# Altium integrated library Resistors_CPF-0805.IntLib: 984 symbols (part 4 of 6)
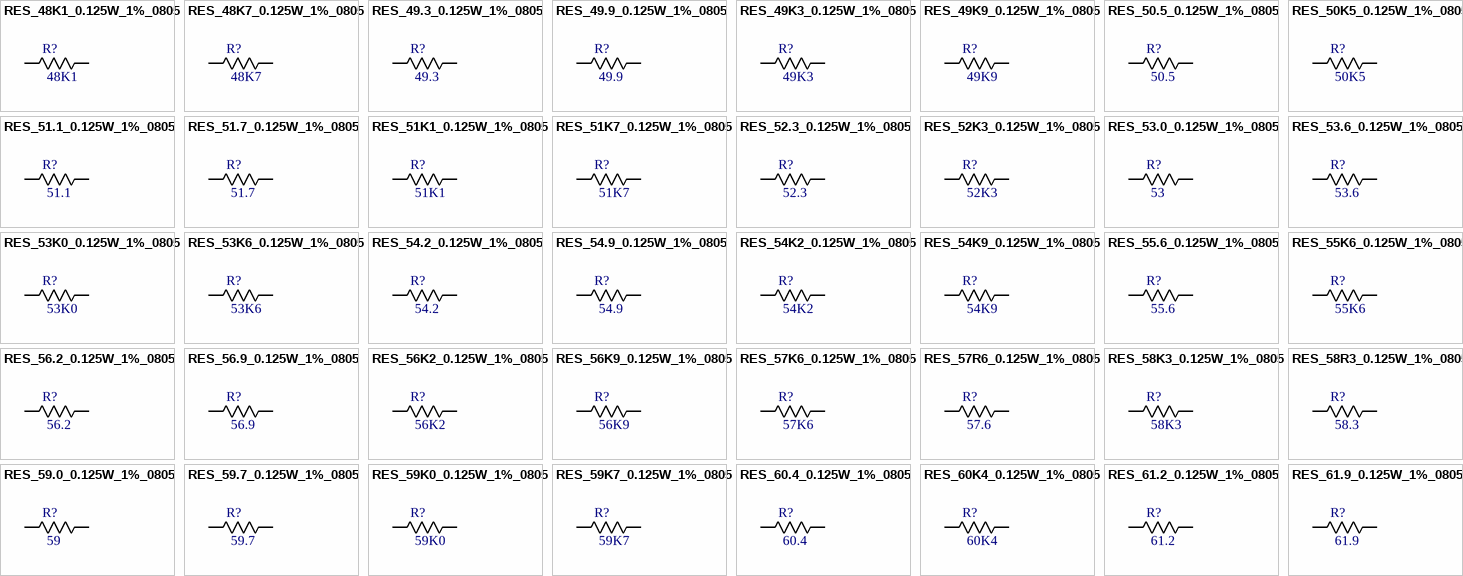
[diagram p27: symbols RES_48K1_0.125W_1%_0805 to RES_61.9_0.125W_1%_0805]

## RES_60K4_0.125W_1%_0805
designator R?, comment 60K4
Resistenza SMD TE Connectivity Film sottile; Voltage[V]: 100; Tollerance[%]: 0.1; Serie: CPF; Vendor: TE Connectivity; Type: Resistors; Package: 0805; Power[W]: 0.1; Value[OHM ]: 60K4
footprint RES_0816_SUS(My_MAXI)
pins: 1, 2

## RES_61.2_0.125W_1%_0805
designator R?, comment 61.2
Resistenza SMD TE Connectivity Film sottile; Voltage[V]: 100; Tollerance[%]: 0.1; Serie: CPF; Vendor: TE Connectivity; Type: Resistors; Package: 0805; Power[W]: 0.1; Value[OHM ]: 61.2
footprint RES_0816_SUS(My_MAXI)
pins: 1, 2

## RES_61.9_0.125W_1%_0805
designator R?, comment 61.9
Resistenza SMD TE Connectivity Film sottile; Voltage[V]: 100; Tollerance[%]: 0.1; Serie: CPF; Vendor: TE Connectivity; Type: Resistors; Package: 0805; Power[W]: 0.1; Value[OHM ]: 61.9
footprint RES_0816_SUS(My_MAXI)
pins: 1, 2

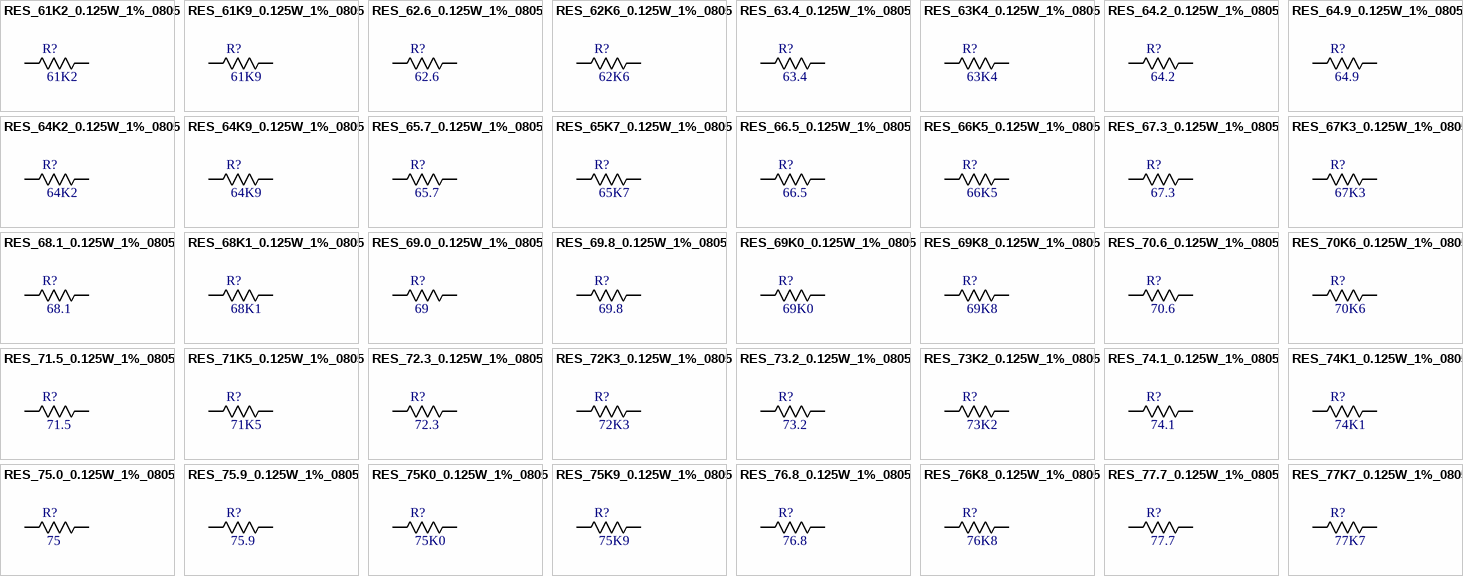
[diagram p13: symbols RES_61K2_0.125W_1%_0805 to RES_77K7_0.125W_1%_0805]

## RES_61K2_0.125W_1%_0805
designator R?, comment 61K2
Resistenza SMD TE Connectivity Film sottile; Voltage[V]: 100; Tollerance[%]: 0.1; Serie: CPF; Vendor: TE Connectivity; Type: Resistors; Package: 0805; Power[W]: 0.1; Value[OHM ]: 61K2
footprint RES_0816_SUS(My_MAXI)
pins: 1, 2

## RES_61K9_0.125W_1%_0805
designator R?, comment 61K9
Resistenza SMD TE Connectivity Film sottile; Voltage[V]: 100; Tollerance[%]: 0.1; Serie: CPF; Vendor: TE Connectivity; Type: Resistors; Package: 0805; Power[W]: 0.1; Value[OHM ]: 61K9
footprint RES_0816_SUS(My_MAXI)
pins: 1, 2

## RES_62.6_0.125W_1%_0805
designator R?, comment 62.6
Resistenza SMD TE Connectivity Film sottile; Voltage[V]: 100; Tollerance[%]: 0.1; Serie: CPF; Vendor: TE Connectivity; Type: Resistors; Package: 0805; Power[W]: 0.1; Value[OHM ]: 62.6
footprint RES_0816_SUS(My_MAXI)
pins: 1, 2

## RES_62K6_0.125W_1%_0805
designator R?, comment 62K6
Resistenza SMD TE Connectivity Film sottile; Voltage[V]: 100; Tollerance[%]: 0.1; Serie: CPF; Vendor: TE Connectivity; Type: Resistors; Package: 0805; Power[W]: 0.1; Value[OHM ]: 62K6
footprint RES_0816_SUS(My_MAXI)
pins: 1, 2

## RES_63.4_0.125W_1%_0805
designator R?, comment 63.4
Resistenza SMD TE Connectivity Film sottile; Voltage[V]: 100; Tollerance[%]: 0.1; Serie: CPF; Vendor: TE Connectivity; Type: Resistors; Package: 0805; Power[W]: 0.1; Value[OHM ]: 63.4
footprint RES_0816_SUS(My_MAXI)
pins: 1, 2

## RES_63K4_0.125W_1%_0805
designator R?, comment 63K4
Resistenza SMD TE Connectivity Film sottile; Voltage[V]: 100; Tollerance[%]: 0.1; Serie: CPF; Vendor: TE Connectivity; Type: Resistors; Package: 0805; Power[W]: 0.1; Value[OHM ]: 63K4
footprint RES_0816_SUS(My_MAXI)
pins: 1, 2

## RES_64.2_0.125W_1%_0805
designator R?, comment 64.2
Resistenza SMD TE Connectivity Film sottile; Voltage[V]: 100; Tollerance[%]: 0.1; Serie: CPF; Vendor: TE Connectivity; Type: Resistors; Package: 0805; Power[W]: 0.1; Value[OHM ]: 64.2
footprint RES_0816_SUS(My_MAXI)
pins: 1, 2

## RES_64.9_0.125W_1%_0805
designator R?, comment 64.9
Resistenza SMD TE Connectivity Film sottile; Voltage[V]: 100; Tollerance[%]: 0.1; Serie: CPF; Vendor: TE Connectivity; Type: Resistors; Package: 0805; Power[W]: 0.1; Value[OHM ]: 64.9
footprint RES_0816_SUS(My_MAXI)
pins: 1, 2

## RES_64K2_0.125W_1%_0805
designator R?, comment 64K2
Resistenza SMD TE Connectivity Film sottile; Voltage[V]: 100; Tollerance[%]: 0.1; Serie: CPF; Vendor: TE Connectivity; Type: Resistors; Package: 0805; Power[W]: 0.1; Value[OHM ]: 64K2
footprint RES_0816_SUS(My_MAXI)
pins: 1, 2

## RES_64K9_0.125W_1%_0805
designator R?, comment 64K9
Resistenza SMD TE Connectivity Film sottile; Voltage[V]: 100; Tollerance[%]: 0.1; Serie: CPF; Vendor: TE Connectivity; Type: Resistors; Package: 0805; Power[W]: 0.1; Value[OHM ]: 64K9
footprint RES_0816_SUS(My_MAXI)
pins: 1, 2

## RES_65.7_0.125W_1%_0805
designator R?, comment 65.7
Resistenza SMD TE Connectivity Film sottile; Voltage[V]: 100; Tollerance[%]: 0.1; Serie: CPF; Vendor: TE Connectivity; Type: Resistors; Package: 0805; Power[W]: 0.1; Value[OHM ]: 65.7
footprint RES_0816_SUS(My_MAXI)
pins: 1, 2

## RES_65K7_0.125W_1%_0805
designator R?, comment 65K7
Resistenza SMD TE Connectivity Film sottile; Voltage[V]: 100; Tollerance[%]: 0.1; Serie: CPF; Vendor: TE Connectivity; Type: Resistors; Package: 0805; Power[W]: 0.1; Value[OHM ]: 65K7
footprint RES_0816_SUS(My_MAXI)
pins: 1, 2

## RES_66.5_0.125W_1%_0805
designator R?, comment 66.5
Resistenza SMD TE Connectivity Film sottile; Voltage[V]: 100; Tollerance[%]: 0.1; Serie: CPF; Vendor: TE Connectivity; Type: Resistors; Package: 0805; Power[W]: 0.1; Value[OHM ]: 66.5
footprint RES_0816_SUS(My_MAXI)
pins: 1, 2

## RES_66K5_0.125W_1%_0805
designator R?, comment 66K5
Resistenza SMD TE Connectivity Film sottile; Voltage[V]: 100; Tollerance[%]: 0.1; Serie: CPF; Vendor: TE Connectivity; Type: Resistors; Package: 0805; Power[W]: 0.1; Value[OHM ]: 66K5
footprint RES_0816_SUS(My_MAXI)
pins: 1, 2

## RES_67.3_0.125W_1%_0805
designator R?, comment 67.3
Resistenza SMD TE Connectivity Film sottile; Voltage[V]: 100; Tollerance[%]: 0.1; Serie: CPF; Vendor: TE Connectivity; Type: Resistors; Package: 0805; Power[W]: 0.1; Value[OHM ]: 67.3
footprint RES_0816_SUS(My_MAXI)
pins: 1, 2

## RES_67K3_0.125W_1%_0805
designator R?, comment 67K3
Resistenza SMD TE Connectivity Film sottile; Voltage[V]: 100; Tollerance[%]: 0.1; Serie: CPF; Vendor: TE Connectivity; Type: Resistors; Package: 0805; Power[W]: 0.1; Value[OHM ]: 67K3
footprint RES_0816_SUS(My_MAXI)
pins: 1, 2

## RES_68.1_0.125W_1%_0805
designator R?, comment 68.1
Resistenza SMD TE Connectivity Film sottile; Voltage[V]: 100; Tollerance[%]: 0.1; Serie: CPF; Vendor: TE Connectivity; Type: Resistors; Package: 0805; Power[W]: 0.1; Value[OHM ]: 68.1
footprint RES_0816_SUS(My_MAXI)
pins: 1, 2

## RES_68K1_0.125W_1%_0805
designator R?, comment 68K1
Resistenza SMD TE Connectivity Film sottile; Voltage[V]: 100; Tollerance[%]: 0.1; Serie: CPF; Vendor: TE Connectivity; Type: Resistors; Package: 0805; Power[W]: 0.1; Value[OHM ]: 68K1
footprint RES_0816_SUS(My_MAXI)
pins: 1, 2

## RES_69.0_0.125W_1%_0805
designator R?, comment 69
Resistenza SMD TE Connectivity Film sottile; Voltage[V]: 100; Tollerance[%]: 0.1; Serie: CPF; Vendor: TE Connectivity; Type: Resistors; Package: 0805; Power[W]: 0.1; Value[OHM ]: 69
footprint RES_0816_SUS(My_MAXI)
pins: 1, 2

## RES_69.8_0.125W_1%_0805
designator R?, comment 69.8
Resistenza SMD TE Connectivity Film sottile; Voltage[V]: 100; Tollerance[%]: 0.1; Serie: CPF; Vendor: TE Connectivity; Type: Resistors; Package: 0805; Power[W]: 0.1; Value[OHM ]: 69.8
footprint RES_0816_SUS(My_MAXI)
pins: 1, 2

## RES_69K0_0.125W_1%_0805
designator R?, comment 69K0
Resistenza SMD TE Connectivity Film sottile; Voltage[V]: 100; Tollerance[%]: 0.1; Serie: CPF; Vendor: TE Connectivity; Type: Resistors; Package: 0805; Power[W]: 0.1; Value[OHM ]: 69K0
footprint RES_0816_SUS(My_MAXI)
pins: 1, 2

## RES_69K8_0.125W_1%_0805
designator R?, comment 69K8
Resistenza SMD TE Connectivity Film sottile; Voltage[V]: 100; Tollerance[%]: 0.1; Serie: CPF; Value[OHM ]: 69K0; Vendor: TE Connectivity; Type: Resistors; Package: 0805; Power[W]: 0.1
footprint RES_0816_SUS(My_MAXI)
pins: 1, 2

## RES_70.6_0.125W_1%_0805
designator R?, comment 70.6
Resistenza SMD TE Connectivity Film sottile; Voltage[V]: 100; Tollerance[%]: 0.1; Serie: CPF; Vendor: TE Connectivity; Type: Resistors; Package: 0805; Power[W]: 0.1; Value[OHM ]: 70.6
footprint RES_0816_SUS(My_MAXI)
pins: 1, 2

## RES_70K6_0.125W_1%_0805
designator R?, comment 70K6
Resistenza SMD TE Connectivity Film sottile; Voltage[V]: 100; Tollerance[%]: 0.1; Serie: CPF; Vendor: TE Connectivity; Type: Resistors; Package: 0805; Power[W]: 0.1; Value[OHM ]: 70K6
footprint RES_0816_SUS(My_MAXI)
pins: 1, 2

## RES_71.5_0.125W_1%_0805
designator R?, comment 71.5
Resistenza SMD TE Connectivity Film sottile; Voltage[V]: 100; Tollerance[%]: 0.1; Serie: CPF; Vendor: TE Connectivity; Type: Resistors; Package: 0805; Power[W]: 0.1; Value[OHM ]: 71.5
footprint RES_0816_SUS(My_MAXI)
pins: 1, 2

## RES_71K5_0.125W_1%_0805
designator R?, comment 71K5
Resistenza SMD TE Connectivity Film sottile; Voltage[V]: 100; Tollerance[%]: 0.1; Serie: CPF; Vendor: TE Connectivity; Type: Resistors; Package: 0805; Power[W]: 0.1; Value[OHM ]: 71K5
footprint RES_0816_SUS(My_MAXI)
pins: 1, 2

## RES_72.3_0.125W_1%_0805
designator R?, comment 72.3
Resistenza SMD TE Connectivity Film sottile; Voltage[V]: 100; Tollerance[%]: 0.1; Serie: CPF; Vendor: TE Connectivity; Type: Resistors; Package: 0805; Power[W]: 0.1; Value[OHM ]: 72.3
footprint RES_0816_SUS(My_MAXI)
pins: 1, 2

## RES_72K3_0.125W_1%_0805
designator R?, comment 72K3
Resistenza SMD TE Connectivity Film sottile; Voltage[V]: 100; Tollerance[%]: 0.1; Serie: CPF; Vendor: TE Connectivity; Type: Resistors; Package: 0805; Power[W]: 0.1; Value[OHM ]: 72K3
footprint RES_0816_SUS(My_MAXI)
pins: 1, 2

## RES_73.2_0.125W_1%_0805
designator R?, comment 73.2
Resistenza SMD TE Connectivity Film sottile; Voltage[V]: 100; Tollerance[%]: 0.1; Serie: CPF; Vendor: TE Connectivity; Type: Resistors; Package: 0805; Power[W]: 0.1; Value[OHM ]: 73.2
footprint RES_0816_SUS(My_MAXI)
pins: 1, 2

## RES_73K2_0.125W_1%_0805
designator R?, comment 73K2
Resistenza SMD TE Connectivity Film sottile; Voltage[V]: 100; Tollerance[%]: 0.1; Serie: CPF; Vendor: TE Connectivity; Type: Resistors; Package: 0805; Power[W]: 0.1; Value[OHM ]: 73K2
footprint RES_0816_SUS(My_MAXI)
pins: 1, 2

## RES_74.1_0.125W_1%_0805
designator R?, comment 74.1
Resistenza SMD TE Connectivity Film sottile; Voltage[V]: 100; Tollerance[%]: 0.1; Serie: CPF; Vendor: TE Connectivity; Type: Resistors; Package: 0805; Power[W]: 0.1; Value[OHM ]: 74.1
footprint RES_0816_SUS(My_MAXI)
pins: 1, 2

## RES_74K1_0.125W_1%_0805
designator R?, comment 74K1
Resistenza SMD TE Connectivity Film sottile; Voltage[V]: 100; Tollerance[%]: 0.1; Serie: CPF; Vendor: TE Connectivity; Type: Resistors; Package: 0805; Power[W]: 0.1; Value[OHM ]: 74K1
footprint RES_0816_SUS(My_MAXI)
pins: 1, 2

## RES_75.0_0.125W_1%_0805
designator R?, comment 75
Resistenza SMD TE Connectivity Film sottile; Voltage[V]: 100; Tollerance[%]: 0.1; Serie: CPF; Vendor: TE Connectivity; Type: Resistors; Package: 0805; Power[W]: 0.1; Value[OHM ]: 75
footprint RES_0816_SUS(My_MAXI)
pins: 1, 2

## RES_75.9_0.125W_1%_0805
designator R?, comment 75.9
Resistenza SMD TE Connectivity Film sottile; Voltage[V]: 100; Tollerance[%]: 0.1; Serie: CPF; Vendor: TE Connectivity; Type: Resistors; Package: 0805; Power[W]: 0.1; Value[OHM ]: 75.9
footprint RES_0816_SUS(My_MAXI)
pins: 1, 2

## RES_75K0_0.125W_1%_0805
designator R?, comment 75K0
Resistenza SMD TE Connectivity Film sottile; Voltage[V]: 100; Tollerance[%]: 0.1; Serie: CPF; Vendor: TE Connectivity; Type: Resistors; Package: 0805; Power[W]: 0.1; Value[OHM ]: 75K0
footprint RES_0816_SUS(My_MAXI)
pins: 1, 2

## RES_75K9_0.125W_1%_0805
designator R?, comment 75K9
Resistenza SMD TE Connectivity Film sottile; Voltage[V]: 100; Tollerance[%]: 0.1; Serie: CPF; Vendor: TE Connectivity; Type: Resistors; Package: 0805; Power[W]: 0.1; Value[OHM ]: 75K9
footprint RES_0816_SUS(My_MAXI)
pins: 1, 2

## RES_76.8_0.125W_1%_0805
designator R?, comment 76.8
Resistenza SMD TE Connectivity Film sottile; Voltage[V]: 100; Tollerance[%]: 0.1; Serie: CPF; Vendor: TE Connectivity; Type: Resistors; Package: 0805; Power[W]: 0.1; Value[OHM ]: 76.8
footprint RES_0816_SUS(My_MAXI)
pins: 1, 2

## RES_76K8_0.125W_1%_0805
designator R?, comment 76K8
Resistenza SMD TE Connectivity Film sottile; Voltage[V]: 100; Tollerance[%]: 0.1; Serie: CPF; Vendor: TE Connectivity; Type: Resistors; Package: 0805; Power[W]: 0.1; Value[OHM ]: 76K8
footprint RES_0816_SUS(My_MAXI)
pins: 1, 2

## RES_77.7_0.125W_1%_0805
designator R?, comment 77.7
Resistenza SMD TE Connectivity Film sottile; Voltage[V]: 100; Tollerance[%]: 0.1; Serie: CPF; Vendor: TE Connectivity; Type: Resistors; Package: 0805; Power[W]: 0.1; Value[OHM ]: 77.7
footprint RES_0816_SUS(My_MAXI)
pins: 1, 2

## RES_77K7_0.125W_1%_0805
designator R?, comment 77K7
Resistenza SMD TE Connectivity Film sottile; Voltage[V]: 100; Tollerance[%]: 0.1; Serie: CPF; Vendor: TE Connectivity; Type: Resistors; Package: 0805; Power[W]: 0.1; Value[OHM ]: 77K7
footprint RES_0816_SUS(My_MAXI)
pins: 1, 2

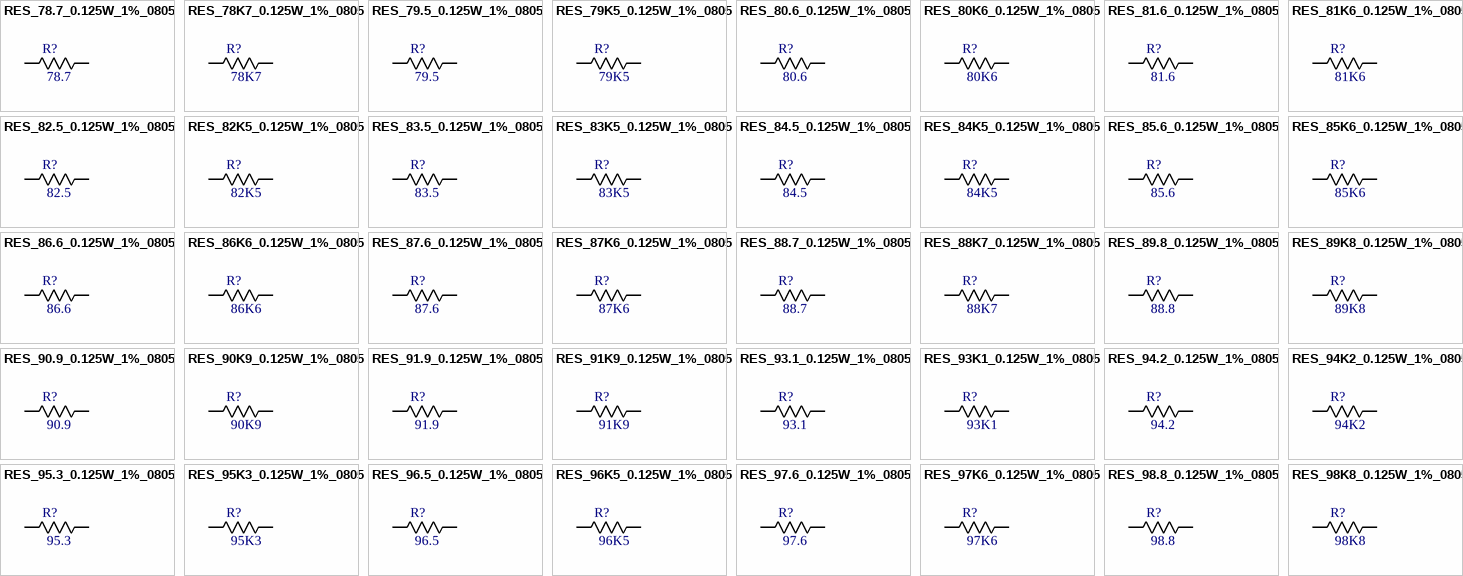
[diagram p14: symbols RES_78.7_0.125W_1%_0805 to RES_98K8_0.125W_1%_0805]

## RES_78.7_0.125W_1%_0805
designator R?, comment 78.7
Resistenza SMD TE Connectivity Film sottile; Voltage[V]: 100; Tollerance[%]: 0.1; Serie: CPF; Vendor: TE Connectivity; Type: Resistors; Package: 0805; Power[W]: 0.1; Value[OHM ]: 78.7
footprint RES_0816_SUS(My_MAXI)
pins: 1, 2

## RES_78K7_0.125W_1%_0805
designator R?, comment 78K7
Resistenza SMD TE Connectivity Film sottile; Voltage[V]: 100; Tollerance[%]: 0.1; Serie: CPF; Vendor: TE Connectivity; Type: Resistors; Package: 0805; Power[W]: 0.1; Value[OHM ]: 78K7
footprint RES_0816_SUS(My_MAXI)
pins: 1, 2

## RES_79.5_0.125W_1%_0805
designator R?, comment 79.5
Resistenza SMD TE Connectivity Film sottile; Voltage[V]: 100; Tollerance[%]: 0.1; Serie: CPF; Vendor: TE Connectivity; Type: Resistors; Package: 0805; Power[W]: 0.1; Value[OHM ]: 79.5
footprint RES_0816_SUS(My_MAXI)
pins: 1, 2

## RES_79K5_0.125W_1%_0805
designator R?, comment 79K5
Resistenza SMD TE Connectivity Film sottile; Voltage[V]: 100; Tollerance[%]: 0.1; Serie: CPF; Vendor: TE Connectivity; Type: Resistors; Package: 0805; Power[W]: 0.1; Value[OHM ]: 79K5
footprint RES_0816_SUS(My_MAXI)
pins: 1, 2

## RES_80.6_0.125W_1%_0805
designator R?, comment 80.6
Resistenza SMD TE Connectivity Film sottile; Voltage[V]: 100; Tollerance[%]: 0.1; Serie: CPF; Vendor: TE Connectivity; Type: Resistors; Package: 0805; Power[W]: 0.1; Value[OHM ]: 80.6
footprint RES_0816_SUS(My_MAXI)
pins: 1, 2

## RES_80K6_0.125W_1%_0805
designator R?, comment 80K6
Resistenza SMD TE Connectivity Film sottile; Voltage[V]: 100; Tollerance[%]: 0.1; Serie: CPF; Vendor: TE Connectivity; Type: Resistors; Package: 0805; Power[W]: 0.1; Value[OHM ]: 80K6
footprint RES_0816_SUS(My_MAXI)
pins: 1, 2

## RES_81.6_0.125W_1%_0805
designator R?, comment 81.6
Resistenza SMD TE Connectivity Film sottile; Voltage[V]: 100; Tollerance[%]: 0.1; Serie: CPF; Vendor: TE Connectivity; Type: Resistors; Package: 0805; Power[W]: 0.1; Value[OHM ]: 81.6
footprint RES_0816_SUS(My_MAXI)
pins: 1, 2

## RES_81K6_0.125W_1%_0805
designator R?, comment 81K6
Resistenza SMD TE Connectivity Film sottile; Voltage[V]: 100; Tollerance[%]: 0.1; Serie: CPF; Vendor: TE Connectivity; Type: Resistors; Package: 0805; Power[W]: 0.1; Value[OHM ]: 81K6
footprint RES_0816_SUS(My_MAXI)
pins: 1, 2

## RES_82.5_0.125W_1%_0805
designator R?, comment 82.5
Resistenza SMD TE Connectivity Film sottile; Voltage[V]: 100; Tollerance[%]: 0.1; Serie: CPF; Vendor: TE Connectivity; Type: Resistors; Package: 0805; Power[W]: 0.1; Value[OHM ]: 82.5
footprint RES_0816_SUS(My_MAXI)
pins: 1, 2

## RES_82K5_0.125W_1%_0805
designator R?, comment 82K5
Resistenza SMD TE Connectivity Film sottile; Voltage[V]: 100; Tollerance[%]: 0.1; Serie: CPF; Vendor: TE Connectivity; Type: Resistors; Package: 0805; Power[W]: 0.1; Value[OHM ]: 82K5
footprint RES_0816_SUS(My_MAXI)
pins: 1, 2

## RES_83.5_0.125W_1%_0805
designator R?, comment 83.5
Resistenza SMD TE Connectivity Film sottile; Voltage[V]: 100; Tollerance[%]: 0.1; Serie: CPF; Vendor: TE Connectivity; Type: Resistors; Package: 0805; Power[W]: 0.1; Value[OHM ]: 83.5
footprint RES_0816_SUS(My_MAXI)
pins: 1, 2

## RES_83K5_0.125W_1%_0805
designator R?, comment 83K5
Resistenza SMD TE Connectivity Film sottile; Voltage[V]: 100; Tollerance[%]: 0.1; Serie: CPF; Vendor: TE Connectivity; Type: Resistors; Package: 0805; Power[W]: 0.1; Value[OHM ]: 83K5
footprint RES_0816_SUS(My_MAXI)
pins: 1, 2

## RES_84.5_0.125W_1%_0805
designator R?, comment 84.5
Resistenza SMD TE Connectivity Film sottile; Voltage[V]: 100; Tollerance[%]: 0.1; Serie: CPF; Vendor: TE Connectivity; Type: Resistors; Package: 0805; Power[W]: 0.1; Value[OHM ]: 84.5
footprint RES_0816_SUS(My_MAXI)
pins: 1, 2

## RES_84K5_0.125W_1%_0805
designator R?, comment 84K5
Resistenza SMD TE Connectivity Film sottile; Voltage[V]: 100; Tollerance[%]: 0.1; Serie: CPF; Vendor: TE Connectivity; Type: Resistors; Package: 0805; Power[W]: 0.1; Value[OHM ]: 84K5
footprint RES_0816_SUS(My_MAXI)
pins: 1, 2

## RES_85.6_0.125W_1%_0805
designator R?, comment 85.6
Resistenza SMD TE Connectivity Film sottile; Voltage[V]: 100; Tollerance[%]: 0.1; Serie: CPF; Vendor: TE Connectivity; Type: Resistors; Package: 0805; Power[W]: 0.1; Value[OHM ]: 85.6
footprint RES_0816_SUS(My_MAXI)
pins: 1, 2

## RES_85K6_0.125W_1%_0805
designator R?, comment 85K6
Resistenza SMD TE Connectivity Film sottile; Voltage[V]: 100; Tollerance[%]: 0.1; Serie: CPF; Vendor: TE Connectivity; Type: Resistors; Package: 0805; Power[W]: 0.1; Value[OHM ]: 85K6
footprint RES_0816_SUS(My_MAXI)
pins: 1, 2

## RES_86.6_0.125W_1%_0805
designator R?, comment 86.6
Resistenza SMD TE Connectivity Film sottile; Voltage[V]: 100; Tollerance[%]: 0.1; Serie: CPF; Vendor: TE Connectivity; Type: Resistors; Package: 0805; Power[W]: 0.1; Value[OHM ]: 86.6
footprint RES_0816_SUS(My_MAXI)
pins: 1, 2

## RES_86K6_0.125W_1%_0805
designator R?, comment 86K6
Resistenza SMD TE Connectivity Film sottile; Voltage[V]: 100; Tollerance[%]: 0.1; Serie: CPF; Vendor: TE Connectivity; Type: Resistors; Package: 0805; Power[W]: 0.1; Value[OHM ]: 86K6
footprint RES_0816_SUS(My_MAXI)
pins: 1, 2

## RES_87.6_0.125W_1%_0805
designator R?, comment 87.6
Resistenza SMD TE Connectivity Film sottile; Voltage[V]: 100; Tollerance[%]: 0.1; Serie: CPF; Vendor: TE Connectivity; Type: Resistors; Package: 0805; Power[W]: 0.1; Value[OHM ]: 87.6
footprint RES_0816_SUS(My_MAXI)
pins: 1, 2

## RES_87K6_0.125W_1%_0805
designator R?, comment 87K6
Resistenza SMD TE Connectivity Film sottile; Voltage[V]: 100; Tollerance[%]: 0.1; Serie: CPF; Vendor: TE Connectivity; Type: Resistors; Package: 0805; Power[W]: 0.1; Value[OHM ]: 87K6
footprint RES_0816_SUS(My_MAXI)
pins: 1, 2

## RES_88.7_0.125W_1%_0805
designator R?, comment 88.7
Resistenza SMD TE Connectivity Film sottile; Voltage[V]: 100; Tollerance[%]: 0.1; Serie: CPF; Vendor: TE Connectivity; Type: Resistors; Package: 0805; Power[W]: 0.1; Value[OHM ]: 88.7
footprint RES_0816_SUS(My_MAXI)
pins: 1, 2

## RES_88K7_0.125W_1%_0805
designator R?, comment 88K7
Resistenza SMD TE Connectivity Film sottile; Voltage[V]: 100; Tollerance[%]: 0.1; Serie: CPF; Vendor: TE Connectivity; Type: Resistors; Package: 0805; Power[W]: 0.1; Value[OHM ]: 88K7
footprint RES_0816_SUS(My_MAXI)
pins: 1, 2

## RES_89.8_0.125W_1%_0805
designator R?, comment 88.8
Resistenza SMD TE Connectivity Film sottile; Voltage[V]: 100; Tollerance[%]: 0.1; Serie: CPF; Vendor: TE Connectivity; Type: Resistors; Package: 0805; Power[W]: 0.1; Value[OHM ]: 88.8
footprint RES_0816_SUS(My_MAXI)
pins: 1, 2

## RES_89K8_0.125W_1%_0805
designator R?, comment 89K8
Resistenza SMD TE Connectivity Film sottile; Voltage[V]: 100; Tollerance[%]: 0.1; Serie: CPF; Vendor: TE Connectivity; Type: Resistors; Package: 0805; Power[W]: 0.1; Value[OHM ]: 89K8
footprint RES_0816_SUS(My_MAXI)
pins: 1, 2

## RES_90.9_0.125W_1%_0805
designator R?, comment 90.9
Resistenza SMD TE Connectivity Film sottile; Voltage[V]: 100; Tollerance[%]: 0.1; Serie: CPF; Vendor: TE Connectivity; Type: Resistors; Package: 0805; Power[W]: 0.1; Value[OHM ]: 90.9
footprint RES_0816_SUS(My_MAXI)
pins: 1, 2

## RES_90K9_0.125W_1%_0805
designator R?, comment 90K9
Resistenza SMD TE Connectivity Film sottile; Voltage[V]: 100; Tollerance[%]: 0.1; Serie: CPF; Vendor: TE Connectivity; Type: Resistors; Package: 0805; Power[W]: 0.1; Value[OHM ]: 90K9
footprint RES_0816_SUS(My_MAXI)
pins: 1, 2

## RES_91.9_0.125W_1%_0805
designator R?, comment 91.9
Resistenza SMD TE Connectivity Film sottile; Voltage[V]: 100; Tollerance[%]: 0.1; Serie: CPF; Vendor: TE Connectivity; Type: Resistors; Package: 0805; Power[W]: 0.1; Value[OHM ]: 91.9
footprint RES_0816_SUS(My_MAXI)
pins: 1, 2

## RES_91K9_0.125W_1%_0805
designator R?, comment 91K9
Resistenza SMD TE Connectivity Film sottile; Voltage[V]: 100; Tollerance[%]: 0.1; Serie: CPF; Vendor: TE Connectivity; Type: Resistors; Package: 0805; Power[W]: 0.1; Value[OHM ]: 91K9
footprint RES_0816_SUS(My_MAXI)
pins: 1, 2

## RES_93.1_0.125W_1%_0805
designator R?, comment 93.1
Resistenza SMD TE Connectivity Film sottile; Voltage[V]: 100; Tollerance[%]: 0.1; Serie: CPF; Vendor: TE Connectivity; Type: Resistors; Package: 0805; Power[W]: 0.1; Value[OHM ]: 93.1
footprint RES_0816_SUS(My_MAXI)
pins: 1, 2

## RES_93K1_0.125W_1%_0805
designator R?, comment 93K1
Resistenza SMD TE Connectivity Film sottile; Voltage[V]: 100; Tollerance[%]: 0.1; Serie: CPF; Vendor: TE Connectivity; Type: Resistors; Package: 0805; Power[W]: 0.1; Value[OHM ]: 93K1
footprint RES_0816_SUS(My_MAXI)
pins: 1, 2

## RES_94.2_0.125W_1%_0805
designator R?, comment 94.2
Resistenza SMD TE Connectivity Film sottile; Voltage[V]: 100; Tollerance[%]: 0.1; Serie: CPF; Vendor: TE Connectivity; Type: Resistors; Package: 0805; Power[W]: 0.1; Value[OHM ]: 94.2
footprint RES_0816_SUS(My_MAXI)
pins: 1, 2

## RES_94K2_0.125W_1%_0805
designator R?, comment 94K2
Resistenza SMD TE Connectivity Film sottile; Voltage[V]: 100; Tollerance[%]: 0.1; Serie: CPF; Vendor: TE Connectivity; Type: Resistors; Package: 0805; Power[W]: 0.1; Value[OHM ]: 94K2
footprint RES_0816_SUS(My_MAXI)
pins: 1, 2

## RES_95.3_0.125W_1%_0805
designator R?, comment 95.3
Resistenza SMD TE Connectivity Film sottile; Voltage[V]: 100; Tollerance[%]: 0.1; Serie: CPF; Vendor: TE Connectivity; Type: Resistors; Package: 0805; Power[W]: 0.1; Value[OHM ]: 95.3
footprint RES_0816_SUS(My_MAXI)
pins: 1, 2

## RES_95K3_0.125W_1%_0805
designator R?, comment 95K3
Resistenza SMD TE Connectivity Film sottile; Voltage[V]: 100; Tollerance[%]: 0.1; Serie: CPF; Vendor: TE Connectivity; Type: Resistors; Package: 0805; Power[W]: 0.1; Value[OHM ]: 95K3
footprint RES_0816_SUS(My_MAXI)
pins: 1, 2

## RES_96.5_0.125W_1%_0805
designator R?, comment 96.5
Resistenza SMD TE Connectivity Film sottile; Voltage[V]: 100; Tollerance[%]: 0.1; Serie: CPF; Vendor: TE Connectivity; Type: Resistors; Package: 0805; Power[W]: 0.1; Value[OHM ]: 96.5
footprint RES_0816_SUS(My_MAXI)
pins: 1, 2

## RES_96K5_0.125W_1%_0805
designator R?, comment 96K5
Resistenza SMD TE Connectivity Film sottile; Voltage[V]: 100; Tollerance[%]: 0.1; Serie: CPF; Vendor: TE Connectivity; Type: Resistors; Package: 0805; Power[W]: 0.1; Value[OHM ]: 96K5
footprint RES_0816_SUS(My_MAXI)
pins: 1, 2

## RES_97.6_0.125W_1%_0805
designator R?, comment 97.6
Resistenza SMD TE Connectivity Film sottile; Voltage[V]: 100; Tollerance[%]: 0.1; Serie: CPF; Vendor: TE Connectivity; Type: Resistors; Package: 0805; Power[W]: 0.1; Value[OHM ]: 97.6
footprint RES_0816_SUS(My_MAXI)
pins: 1, 2

## RES_97K6_0.125W_1%_0805
designator R?, comment 97K6
Resistenza SMD TE Connectivity Film sottile; Voltage[V]: 100; Tollerance[%]: 0.1; Serie: CPF; Vendor: TE Connectivity; Type: Resistors; Package: 0805; Power[W]: 0.1; Value[OHM ]: 97K6
footprint RES_0816_SUS(My_MAXI)
pins: 1, 2

## RES_98.8_0.125W_1%_0805
designator R?, comment 98.8
Resistenza SMD TE Connectivity Film sottile; Voltage[V]: 100; Tollerance[%]: 0.1; Serie: CPF; Vendor: TE Connectivity; Type: Resistors; Package: 0805; Power[W]: 0.1; Value[OHM ]: 98.8
footprint RES_0816_SUS(My_MAXI)
pins: 1, 2

## RES_98K8_0.125W_1%_0805
designator R?, comment 98K8
Resistenza SMD TE Connectivity Film sottile; Voltage[V]: 100; Tollerance[%]: 0.1; Serie: CPF; Vendor: TE Connectivity; Type: Resistors; Package: 0805; Power[W]: 0.1; Value[OHM ]: 98K8
footprint RES_0816_SUS(My_MAXI)
pins: 1, 2

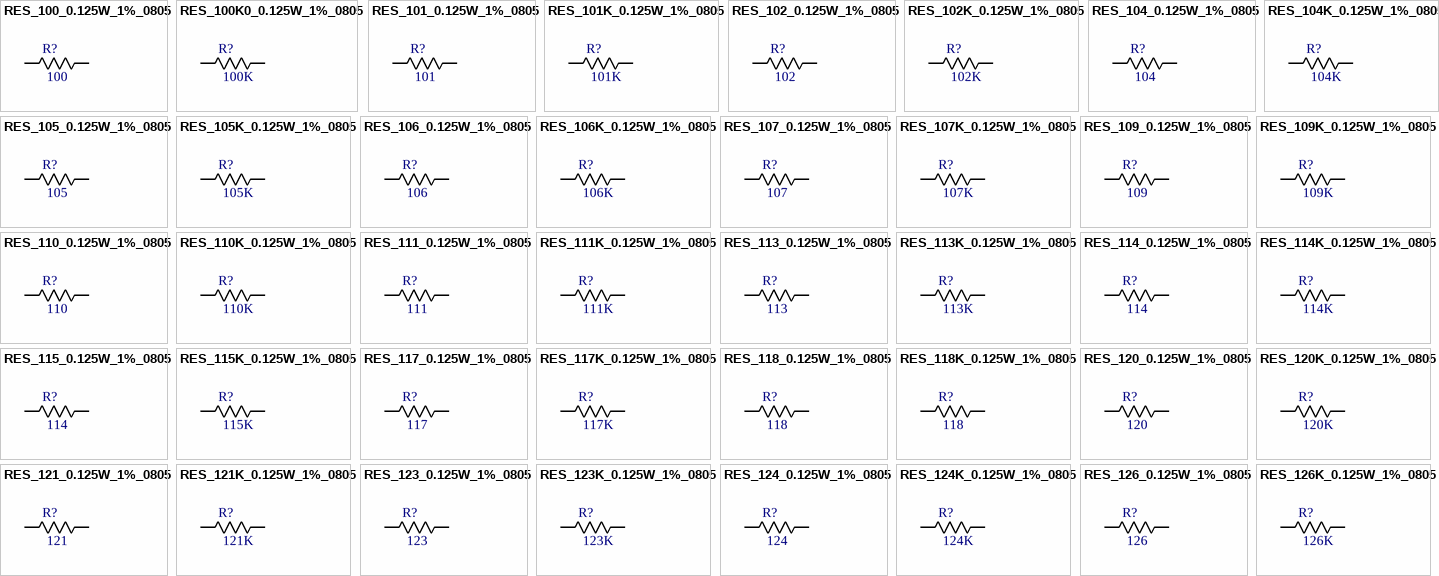
[diagram p15: symbols RES_100_0.125W_1%_0805 to RES_126K_0.125W_1%_0805]

## RES_100_0.125W_1%_0805
designator R?, comment 100
Resistenza SMD TE Connectivity Film sottile; Tollerance[%]: 0.1; Serie: CPF; Vendor: TE Connectivity; Type: Resistors; Voltage[V]: 100; Package: 0805; Power[W]: 0.1; Value[OHM ]: 100
footprint RES_0816_SUS(My_MAXI)
pins: 1, 2

## RES_100K0_0.125W_1%_0805
designator R?, comment 100K
Resistenza SMD TE Connectivity Film sottile; Voltage[V]: 100; Tollerance[%]: 0.1; Serie: CPF; Vendor: TE Connectivity; Type: Resistors; Package: 0805; Power[W]: 0.1; Value[OHM ]: 100K
footprint RES_0816_SUS(My_MAXI)
pins: 1, 2

## RES_101_0.125W_1%_0805
designator R?, comment 101
Resistenza SMD TE Connectivity Film sottile; Voltage[V]: 100; Tollerance[%]: 0.1; Serie: CPF; Vendor: TE Connectivity; Type: Resistors; Package: 0805; Power[W]: 0.1; Value[OHM ]: 101
footprint RES_0816_SUS(My_MAXI)
pins: 1, 2

## RES_101K_0.125W_1%_0805
designator R?, comment 101K
Resistenza SMD TE Connectivity Film sottile; Voltage[V]: 100; Tollerance[%]: 0.1; Serie: CPF; Vendor: TE Connectivity; Type: Resistors; Package: 0805; Power[W]: 0.1; Value[OHM ]: 101k
footprint RES_0816_SUS(My_MAXI)
pins: 1, 2

## RES_102_0.125W_1%_0805
designator R?, comment 102
Resistenza SMD TE Connectivity Film sottile; Voltage[V]: 100; Tollerance[%]: 0.1; Serie: CPF; Vendor: TE Connectivity; Type: Resistors; Package: 0805; Power[W]: 0.1; Value[OHM ]: 102
footprint RES_0816_SUS(My_MAXI)
pins: 1, 2

## RES_102K_0.125W_1%_0805
designator R?, comment 102K
Resistenza SMD TE Connectivity Film sottile; Voltage[V]: 100; Tollerance[%]: 0.1; Serie: CPF; Vendor: TE Connectivity; Type: Resistors; Package: 0805; Power[W]: 0.1; Value[OHM ]: 102K
footprint RES_0816_SUS(My_MAXI)
pins: 1, 2

## RES_104_0.125W_1%_0805
designator R?, comment 104
Resistenza SMD TE Connectivity Film sottile; Voltage[V]: 100; Tollerance[%]: 0.1; Serie: CPF; Vendor: TE Connectivity; Type: Resistors; Package: 0805; Power[W]: 0.1; Value[OHM ]: 104
footprint RES_0816_SUS(My_MAXI)
pins: 1, 2

## RES_104K_0.125W_1%_0805
designator R?, comment 104K
Resistenza SMD TE Connectivity Film sottile; Voltage[V]: 100; Tollerance[%]: 0.1; Serie: CPF; Vendor: TE Connectivity; Type: Resistors; Package: 0805; Power[W]: 0.1; Value[OHM ]: 104K
footprint RES_0816_SUS(My_MAXI)
pins: 1, 2

## RES_105_0.125W_1%_0805
designator R?, comment 105
Resistenza SMD TE Connectivity Film sottile; Voltage[V]: 100; Tollerance[%]: 0.1; Serie: CPF; Vendor: TE Connectivity; Type: Resistors; Package: 0805; Power[W]: 0.1; Value[OHM ]: 105
footprint RES_0816_SUS(My_MAXI)
pins: 1, 2

## RES_105K_0.125W_1%_0805
designator R?, comment 105K
Resistenza SMD TE Connectivity Film sottile; Voltage[V]: 100; Tollerance[%]: 0.1; Serie: CPF; Vendor: TE Connectivity; Type: Resistors; Package: 0805; Power[W]: 0.1; Value[OHM ]: 105K
footprint RES_0816_SUS(My_MAXI)
pins: 1, 2

## RES_106_0.125W_1%_0805
designator R?, comment 106
Resistenza SMD TE Connectivity Film sottile; Voltage[V]: 100; Tollerance[%]: 0.1; Serie: CPF; Vendor: TE Connectivity; Type: Resistors; Package: 0805; Power[W]: 0.1; Value[OHM ]: 106
footprint RES_0816_SUS(My_MAXI)
pins: 1, 2

## RES_106K_0.125W_1%_0805
designator R?, comment 106K
Resistenza SMD TE Connectivity Film sottile; Voltage[V]: 100; Tollerance[%]: 0.1; Serie: CPF; Vendor: TE Connectivity; Type: Resistors; Package: 0805; Power[W]: 0.1; Value[OHM ]: 106K
footprint RES_0816_SUS(My_MAXI)
pins: 1, 2

## RES_107_0.125W_1%_0805
designator R?, comment 107
Resistenza SMD TE Connectivity Film sottile; Voltage[V]: 100; Tollerance[%]: 0.1; Serie: CPF; Vendor: TE Connectivity; Type: Resistors; Package: 0805; Power[W]: 0.1; Value[OHM ]: 107
footprint RES_0816_SUS(My_MAXI)
pins: 1, 2

## RES_107K_0.125W_1%_0805
designator R?, comment 107K
Resistenza SMD TE Connectivity Film sottile; Voltage[V]: 100; Tollerance[%]: 0.1; Serie: CPF; Vendor: TE Connectivity; Type: Resistors; Package: 0805; Power[W]: 0.1; Value[OHM ]: 107K
footprint RES_0816_SUS(My_MAXI)
pins: 1, 2

## RES_109_0.125W_1%_0805
designator R?, comment 109
Resistenza SMD TE Connectivity Film sottile; Voltage[V]: 100; Tollerance[%]: 0.1; Serie: CPF; Vendor: TE Connectivity; Type: Resistors; Package: 0805; Power[W]: 0.1; Value[OHM ]: 109
footprint RES_0816_SUS(My_MAXI)
pins: 1, 2

## RES_109K_0.125W_1%_0805
designator R?, comment 109K
Resistenza SMD TE Connectivity Film sottile; Voltage[V]: 100; Tollerance[%]: 0.1; Serie: CPF; Vendor: TE Connectivity; Type: Resistors; Package: 0805; Power[W]: 0.1; Value[OHM ]: 109K
footprint RES_0816_SUS(My_MAXI)
pins: 1, 2

## RES_110_0.125W_1%_0805
designator R?, comment 110
Resistenza SMD TE Connectivity Film sottile; Voltage[V]: 100; Tollerance[%]: 0.1; Serie: CPF; Vendor: TE Connectivity; Type: Resistors; Package: 0805; Power[W]: 0.1; Value[OHM ]: 110
footprint RES_0816_SUS(My_MAXI)
pins: 1, 2

## RES_110K_0.125W_1%_0805
designator R?, comment 110K
Resistenza SMD TE Connectivity Film sottile; Voltage[V]: 100; Tollerance[%]: 0.1; Serie: CPF; Vendor: TE Connectivity; Type: Resistors; Package: 0805; Power[W]: 0.1; Value[OHM ]: 110K
footprint RES_0816_SUS(My_MAXI)
pins: 1, 2

## RES_111_0.125W_1%_0805
designator R?, comment 111
Resistenza SMD TE Connectivity Film sottile; Voltage[V]: 100; Tollerance[%]: 0.1; Serie: CPF; Vendor: TE Connectivity; Type: Resistors; Package: 0805; Power[W]: 0.1; Value[OHM ]: 111
footprint RES_0816_SUS(My_MAXI)
pins: 1, 2

## RES_111K_0.125W_1%_0805
designator R?, comment 111K
Resistenza SMD TE Connectivity Film sottile; Voltage[V]: 100; Tollerance[%]: 0.1; Serie: CPF; Vendor: TE Connectivity; Type: Resistors; Package: 0805; Power[W]: 0.1; Value[OHM ]: 111K
footprint RES_0816_SUS(My_MAXI)
pins: 1, 2

## RES_113_0.125W_1%_0805
designator R?, comment 113
Resistenza SMD TE Connectivity Film sottile; Voltage[V]: 100; Tollerance[%]: 0.1; Serie: CPF; Vendor: TE Connectivity; Type: Resistors; Package: 0805; Power[W]: 0.1; Value[OHM ]: 113
footprint RES_0816_SUS(My_MAXI)
pins: 1, 2

## RES_113K_0.125W_1%_0805
designator R?, comment 113K
Resistenza SMD TE Connectivity Film sottile; Voltage[V]: 100; Tollerance[%]: 0.1; Serie: CPF; Vendor: TE Connectivity; Type: Resistors; Package: 0805; Power[W]: 0.1; Value[OHM ]: 113K
footprint RES_0816_SUS(My_MAXI)
pins: 1, 2

## RES_114_0.125W_1%_0805
designator R?, comment 114
Resistenza SMD TE Connectivity Film sottile; Voltage[V]: 100; Tollerance[%]: 0.1; Serie: CPF; Vendor: TE Connectivity; Type: Resistors; Package: 0805; Power[W]: 0.1; Value[OHM ]: 114
footprint RES_0816_SUS(My_MAXI)
pins: 1, 2

## RES_114K_0.125W_1%_0805
designator R?, comment 114K
Resistenza SMD TE Connectivity Film sottile; Voltage[V]: 100; Tollerance[%]: 0.1; Serie: CPF; Vendor: TE Connectivity; Type: Resistors; Package: 0805; Power[W]: 0.1; Value[OHM ]: 114K
footprint RES_0816_SUS(My_MAXI)
pins: 1, 2

## RES_115_0.125W_1%_0805
designator R?, comment 114
Resistenza SMD TE Connectivity Film sottile; Voltage[V]: 100; Tollerance[%]: 0.1; Serie: CPF; Value[OHM ]: 115; Vendor: TE Connectivity; Type: Resistors; Package: 0805; Power[W]: 0.1
footprint RES_0816_SUS(My_MAXI)
pins: 1, 2

## RES_115K_0.125W_1%_0805
designator R?, comment 115K
Resistenza SMD TE Connectivity Film sottile; Voltage[V]: 100; Tollerance[%]: 0.1; Serie: CPF; Vendor: TE Connectivity; Type: Resistors; Package: 0805; Power[W]: 0.1; Value[OHM ]: 115K
footprint RES_0816_SUS(My_MAXI)
pins: 1, 2

## RES_117_0.125W_1%_0805
designator R?, comment 117
Resistenza SMD TE Connectivity Film sottile; Voltage[V]: 100; Tollerance[%]: 0.1; Serie: CPF; Vendor: TE Connectivity; Type: Resistors; Package: 0805; Power[W]: 0.1; Value[OHM ]: 117
footprint RES_0816_SUS(My_MAXI)
pins: 1, 2

## RES_117K_0.125W_1%_0805
designator R?, comment 117K
Resistenza SMD TE Connectivity Film sottile; Voltage[V]: 100; Tollerance[%]: 0.1; Serie: CPF; Vendor: TE Connectivity; Type: Resistors; Package: 0805; Power[W]: 0.1; Value[OHM ]: 117K
footprint RES_0816_SUS(My_MAXI)
pins: 1, 2

## RES_118_0.125W_1%_0805
designator R?, comment 118
Resistenza SMD TE Connectivity Film sottile; Voltage[V]: 100; Tollerance[%]: 0.1; Serie: CPF; Vendor: TE Connectivity; Type: Resistors; Package: 0805; Power[W]: 0.1; Value[OHM ]: 118
footprint RES_0816_SUS(My_MAXI)
pins: 1, 2

## RES_118K_0.125W_1%_0805
designator R?, comment 118
Resistenza SMD TE Connectivity Film sottile; Voltage[V]: 100; Tollerance[%]: 0.1; Serie: CPF; Value[OHM ]: 118K; Vendor: TE Connectivity; Type: Resistors; Package: 0805; Power[W]: 0.1
footprint RES_0816_SUS(My_MAXI)
pins: 1, 2

## RES_120_0.125W_1%_0805
designator R?, comment 120
Resistenza SMD TE Connectivity Film sottile; Voltage[V]: 100; Tollerance[%]: 0.1; Serie: CPF; Vendor: TE Connectivity; Type: Resistors; Package: 0805; Power[W]: 0.1; Value[OHM ]: 120
footprint RES_0816_SUS(My_MAXI)
pins: 1, 2

## RES_120K_0.125W_1%_0805
designator R?, comment 120K
Resistenza SMD TE Connectivity Film sottile; Voltage[V]: 100; Tollerance[%]: 0.1; Serie: CPF; Vendor: TE Connectivity; Type: Resistors; Package: 0805; Power[W]: 0.1; Value[OHM ]: 120K
footprint RES_0816_SUS(My_MAXI)
pins: 1, 2

## RES_121_0.125W_1%_0805
designator R?, comment 121
Resistenza SMD TE Connectivity Film sottile; Voltage[V]: 100; Tollerance[%]: 0.1; Serie: CPF; Vendor: TE Connectivity; Type: Resistors; Package: 0805; Power[W]: 0.1; Value[OHM ]: 121
footprint RES_0816_SUS(My_MAXI)
pins: 1, 2

## RES_121K_0.125W_1%_0805
designator R?, comment 121K
Resistenza SMD TE Connectivity Film sottile; Voltage[V]: 100; Tollerance[%]: 0.1; Serie: CPF; Vendor: TE Connectivity; Type: Resistors; Package: 0805; Power[W]: 0.1; Value[OHM ]: 121K
footprint RES_0816_SUS(My_MAXI)
pins: 1, 2

## RES_123_0.125W_1%_0805
designator R?, comment 123
Resistenza SMD TE Connectivity Film sottile; Voltage[V]: 100; Tollerance[%]: 0.1; Serie: CPF; Vendor: TE Connectivity; Type: Resistors; Package: 0805; Power[W]: 0.1; Value[OHM ]: 123
footprint RES_0816_SUS(My_MAXI)
pins: 1, 2

## RES_123K_0.125W_1%_0805
designator R?, comment 123K
Resistenza SMD TE Connectivity Film sottile; Voltage[V]: 100; Tollerance[%]: 0.1; Serie: CPF; Vendor: TE Connectivity; Type: Resistors; Package: 0805; Power[W]: 0.1; Value[OHM ]: 123K
footprint RES_0816_SUS(My_MAXI)
pins: 1, 2

## RES_124_0.125W_1%_0805
designator R?, comment 124
Resistenza SMD TE Connectivity Film sottile; Voltage[V]: 100; Tollerance[%]: 0.1; Serie: CPF; Vendor: TE Connectivity; Type: Resistors; Package: 0805; Power[W]: 0.1; Value[OHM ]: 124
footprint RES_0816_SUS(My_MAXI)
pins: 1, 2

## RES_124K_0.125W_1%_0805
designator R?, comment 124K
Resistenza SMD TE Connectivity Film sottile; Voltage[V]: 100; Tollerance[%]: 0.1; Serie: CPF; Vendor: TE Connectivity; Type: Resistors; Package: 0805; Power[W]: 0.1; Value[OHM ]: 124K
footprint RES_0816_SUS(My_MAXI)
pins: 1, 2

## RES_126_0.125W_1%_0805
designator R?, comment 126
Resistenza SMD TE Connectivity Film sottile; Voltage[V]: 100; Tollerance[%]: 0.1; Serie: CPF; Vendor: TE Connectivity; Type: Resistors; Package: 0805; Power[W]: 0.1; Value[OHM ]: 126
footprint RES_0816_SUS(My_MAXI)
pins: 1, 2

## RES_126K_0.125W_1%_0805
designator R?, comment 126K
Resistenza SMD TE Connectivity Film sottile; Voltage[V]: 100; Tollerance[%]: 0.1; Serie: CPF; Vendor: TE Connectivity; Type: Resistors; Package: 0805; Power[W]: 0.1; Value[OHM ]: 100
footprint RES_0816_SUS(My_MAXI)
pins: 1, 2

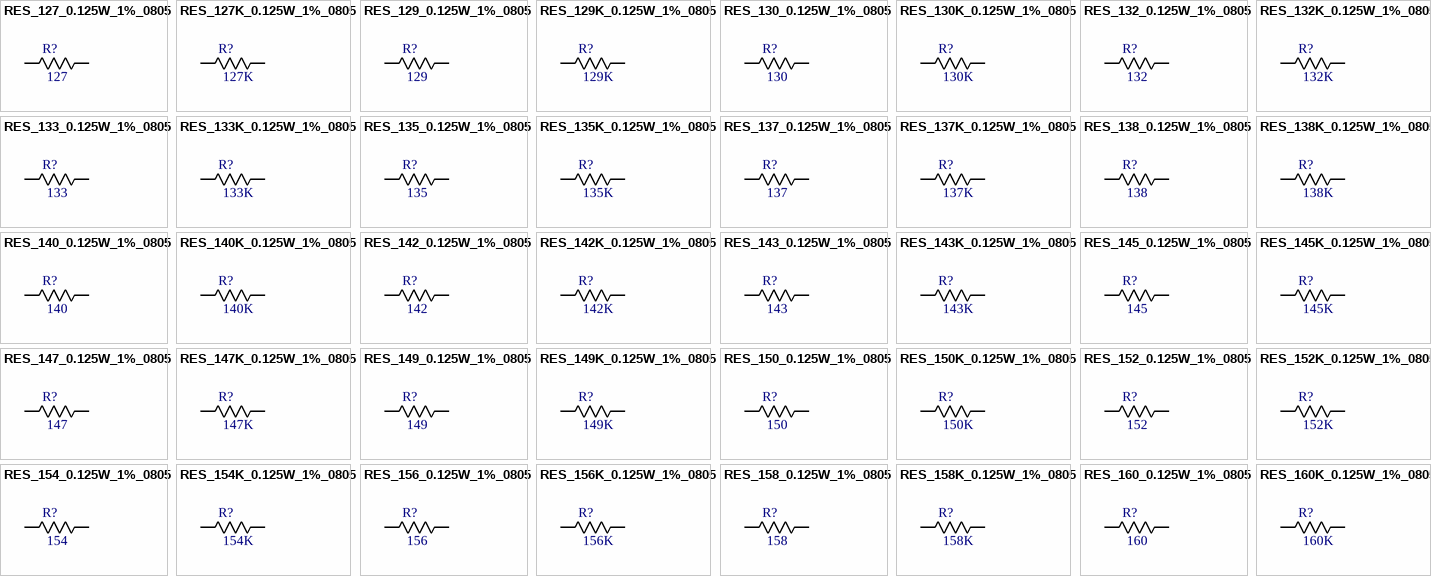
[diagram p16: symbols RES_127_0.125W_1%_0805 to RES_160K_0.125W_1%_0805]

## RES_127_0.125W_1%_0805
designator R?, comment 127
Resistenza SMD TE Connectivity Film sottile; Voltage[V]: 100; Tollerance[%]: 0.1; Serie: CPF; Vendor: TE Connectivity; Type: Resistors; Package: 0805; Power[W]: 0.1; Value[OHM ]: 127
footprint RES_0816_SUS(My_MAXI)
pins: 1, 2

## RES_127K_0.125W_1%_0805
designator R?, comment 127K
Resistenza SMD TE Connectivity Film sottile; Voltage[V]: 100; Tollerance[%]: 0.1; Serie: CPF; Vendor: TE Connectivity; Type: Resistors; Package: 0805; Power[W]: 0.1; Value[OHM ]: 127K
footprint RES_0816_SUS(My_MAXI)
pins: 1, 2

## RES_129_0.125W_1%_0805
designator R?, comment 129
Resistenza SMD TE Connectivity Film sottile; Voltage[V]: 100; Tollerance[%]: 0.1; Serie: CPF; Vendor: TE Connectivity; Type: Resistors; Package: 0805; Power[W]: 0.1; Value[OHM ]: 129
footprint RES_0816_SUS(My_MAXI)
pins: 1, 2

## RES_129K_0.125W_1%_0805
designator R?, comment 129K
Resistenza SMD TE Connectivity Film sottile; Voltage[V]: 100; Tollerance[%]: 0.1; Serie: CPF; Vendor: TE Connectivity; Type: Resistors; Package: 0805; Power[W]: 0.1; Value[OHM ]: 129K
footprint RES_0816_SUS(My_MAXI)
pins: 1, 2

## RES_130_0.125W_1%_0805
designator R?, comment 130
Resistenza SMD TE Connectivity Film sottile; Voltage[V]: 100; Tollerance[%]: 0.1; Serie: CPF; Vendor: TE Connectivity; Type: Resistors; Package: 0805; Power[W]: 0.1; Value[OHM ]: 130
footprint RES_0816_SUS(My_MAXI)
pins: 1, 2

## RES_130K_0.125W_1%_0805
designator R?, comment 130K
Resistenza SMD TE Connectivity Film sottile; Voltage[V]: 100; Tollerance[%]: 0.1; Serie: CPF; Vendor: TE Connectivity; Type: Resistors; Package: 0805; Power[W]: 0.1; Value[OHM ]: 130K
footprint RES_0816_SUS(My_MAXI)
pins: 1, 2

## RES_132_0.125W_1%_0805
designator R?, comment 132
Resistenza SMD TE Connectivity Film sottile; Voltage[V]: 100; Tollerance[%]: 0.1; Serie: CPF; Vendor: TE Connectivity; Type: Resistors; Package: 0805; Power[W]: 0.1; Value[OHM ]: 132
footprint RES_0816_SUS(My_MAXI)
pins: 1, 2

## RES_132K_0.125W_1%_0805
designator R?, comment 132K
Resistenza SMD TE Connectivity Film sottile; Voltage[V]: 100; Tollerance[%]: 0.1; Serie: CPF; Vendor: TE Connectivity; Type: Resistors; Package: 0805; Power[W]: 0.1; Value[OHM ]: 132K
footprint RES_0816_SUS(My_MAXI)
pins: 1, 2

## RES_133_0.125W_1%_0805
designator R?, comment 133
Resistenza SMD TE Connectivity Film sottile; Voltage[V]: 100; Tollerance[%]: 0.1; Serie: CPF; Vendor: TE Connectivity; Type: Resistors; Package: 0805; Power[W]: 0.1; Value[OHM ]: 133
footprint RES_0816_SUS(My_MAXI)
pins: 1, 2

## RES_133K_0.125W_1%_0805
designator R?, comment 133K
Resistenza SMD TE Connectivity Film sottile; Voltage[V]: 100; Tollerance[%]: 0.1; Serie: CPF; Vendor: TE Connectivity; Type: Resistors; Package: 0805; Power[W]: 0.1; Value[OHM ]: 133K
footprint RES_0816_SUS(My_MAXI)
pins: 1, 2

## RES_135_0.125W_1%_0805
designator R?, comment 135
Resistenza SMD TE Connectivity Film sottile; Voltage[V]: 100; Tollerance[%]: 0.1; Serie: CPF; Vendor: TE Connectivity; Type: Resistors; Package: 0805; Power[W]: 0.1; Value[OHM ]: 135
footprint RES_0816_SUS(My_MAXI)
pins: 1, 2

## RES_135K_0.125W_1%_0805
designator R?, comment 135K
Resistenza SMD TE Connectivity Film sottile; Voltage[V]: 100; Tollerance[%]: 0.1; Serie: CPF; Value[OHM ]: 133K; Vendor: TE Connectivity; Type: Resistors; Package: 0805; Power[W]: 0.1
footprint RES_0816_SUS(My_MAXI)
pins: 1, 2

## RES_137_0.125W_1%_0805
designator R?, comment 137
Resistenza SMD TE Connectivity Film sottile; Voltage[V]: 100; Tollerance[%]: 0.1; Serie: CPF; Vendor: TE Connectivity; Type: Resistors; Package: 0805; Power[W]: 0.1; Value[OHM ]: 137
footprint RES_0816_SUS(My_MAXI)
pins: 1, 2

## RES_137K_0.125W_1%_0805
designator R?, comment 137K
Resistenza SMD TE Connectivity Film sottile; Voltage[V]: 100; Tollerance[%]: 0.1; Serie: CPF; Vendor: TE Connectivity; Type: Resistors; Package: 0805; Power[W]: 0.1; Value[OHM ]: 137K
footprint RES_0816_SUS(My_MAXI)
pins: 1, 2

## RES_138_0.125W_1%_0805
designator R?, comment 138
Resistenza SMD TE Connectivity Film sottile; Voltage[V]: 100; Tollerance[%]: 0.1; Serie: CPF; Vendor: TE Connectivity; Type: Resistors; Package: 0805; Power[W]: 0.1; Value[OHM ]: 138
footprint RES_0816_SUS(My_MAXI)
pins: 1, 2

## RES_138K_0.125W_1%_0805
designator R?, comment 138K
Resistenza SMD TE Connectivity Film sottile; Voltage[V]: 100; Tollerance[%]: 0.1; Serie: CPF; Vendor: TE Connectivity; Type: Resistors; Package: 0805; Power[W]: 0.1; Value[OHM ]: 138K
footprint RES_0816_SUS(My_MAXI)
pins: 1, 2

## RES_140_0.125W_1%_0805
designator R?, comment 140
Resistenza SMD TE Connectivity Film sottile; Voltage[V]: 100; Tollerance[%]: 0.1; Serie: CPF; Vendor: TE Connectivity; Type: Resistors; Package: 0805; Power[W]: 0.1; Value[OHM ]: 140
footprint RES_0816_SUS(My_MAXI)
pins: 1, 2

## RES_140K_0.125W_1%_0805
designator R?, comment 140K
Resistenza SMD TE Connectivity Film sottile; Voltage[V]: 100; Tollerance[%]: 0.1; Serie: CPF; Vendor: TE Connectivity; Type: Resistors; Package: 0805; Power[W]: 0.1; Value[OHM ]: 140K
footprint RES_0816_SUS(My_MAXI)
pins: 1, 2

## RES_142_0.125W_1%_0805
designator R?, comment 142
Resistenza SMD TE Connectivity Film sottile; Voltage[V]: 100; Tollerance[%]: 0.1; Serie: CPF; Vendor: TE Connectivity; Type: Resistors; Package: 0805; Power[W]: 0.1; Value[OHM ]: 142
footprint RES_0816_SUS(My_MAXI)
pins: 1, 2

## RES_142K_0.125W_1%_0805
designator R?, comment 142K
Resistenza SMD TE Connectivity Film sottile; Voltage[V]: 100; Tollerance[%]: 0.1; Serie: CPF; Vendor: TE Connectivity; Type: Resistors; Package: 0805; Power[W]: 0.1; Value[OHM ]: 142K
footprint RES_0816_SUS(My_MAXI)
pins: 1, 2

## RES_143_0.125W_1%_0805
designator R?, comment 143
Resistenza SMD TE Connectivity Film sottile; Voltage[V]: 100; Tollerance[%]: 0.1; Serie: CPF; Vendor: TE Connectivity; Type: Resistors; Package: 0805; Power[W]: 0.1; Value[OHM ]: 143
footprint RES_0816_SUS(My_MAXI)
pins: 1, 2

## RES_143K_0.125W_1%_0805
designator R?, comment 143K
Resistenza SMD TE Connectivity Film sottile; Voltage[V]: 100; Tollerance[%]: 0.1; Serie: CPF; Vendor: TE Connectivity; Type: Resistors; Package: 0805; Power[W]: 0.1; Value[OHM ]: 143K
footprint RES_0816_SUS(My_MAXI)
pins: 1, 2

## RES_145_0.125W_1%_0805
designator R?, comment 145
Resistenza SMD TE Connectivity Film sottile; Voltage[V]: 100; Tollerance[%]: 0.1; Serie: CPF; Vendor: TE Connectivity; Type: Resistors; Package: 0805; Power[W]: 0.1; Value[OHM ]: 145
footprint RES_0816_SUS(My_MAXI)
pins: 1, 2

## RES_145K_0.125W_1%_0805
designator R?, comment 145K
Resistenza SMD TE Connectivity Film sottile; Voltage[V]: 100; Tollerance[%]: 0.1; Serie: CPF; Vendor: TE Connectivity; Type: Resistors; Package: 0805; Power[W]: 0.1; Value[OHM ]: 145K
footprint RES_0816_SUS(My_MAXI)
pins: 1, 2

## RES_147_0.125W_1%_0805
designator R?, comment 147
Resistenza SMD TE Connectivity Film sottile; Voltage[V]: 100; Tollerance[%]: 0.1; Serie: CPF; Vendor: TE Connectivity; Type: Resistors; Package: 0805; Power[W]: 0.1; Value[OHM ]: 147
footprint RES_0816_SUS(My_MAXI)
pins: 1, 2

## RES_147K_0.125W_1%_0805
designator R?, comment 147K
Resistenza SMD TE Connectivity Film sottile; Voltage[V]: 100; Tollerance[%]: 0.1; Serie: CPF; Vendor: TE Connectivity; Type: Resistors; Package: 0805; Power[W]: 0.1; Value[OHM ]: 147K
footprint RES_0816_SUS(My_MAXI)
pins: 1, 2

## RES_149_0.125W_1%_0805
designator R?, comment 149
Resistenza SMD TE Connectivity Film sottile; Voltage[V]: 100; Tollerance[%]: 0.1; Serie: CPF; Vendor: TE Connectivity; Type: Resistors; Package: 0805; Power[W]: 0.1; Value[OHM ]: 149
footprint RES_0816_SUS(My_MAXI)
pins: 1, 2

## RES_149K_0.125W_1%_0805
designator R?, comment 149K
Resistenza SMD TE Connectivity Film sottile; Voltage[V]: 100; Tollerance[%]: 0.1; Serie: CPF; Vendor: TE Connectivity; Type: Resistors; Package: 0805; Power[W]: 0.1; Value[OHM ]: 149K
footprint RES_0816_SUS(My_MAXI)
pins: 1, 2

## RES_150_0.125W_1%_0805
designator R?, comment 150
Resistenza SMD TE Connectivity Film sottile; Voltage[V]: 100; Tollerance[%]: 0.1; Serie: CPF; Vendor: TE Connectivity; Type: Resistors; Package: 0805; Power[W]: 0.1; Value[OHM ]: 150
footprint RES_0816_SUS(My_MAXI)
pins: 1, 2

## RES_150K_0.125W_1%_0805
designator R?, comment 150K
Resistenza SMD TE Connectivity Film sottile; Voltage[V]: 100; Tollerance[%]: 0.1; Serie: CPF; Vendor: TE Connectivity; Type: Resistors; Package: 0805; Power[W]: 0.1; Value[OHM ]: 150K
footprint RES_0816_SUS(My_MAXI)
pins: 1, 2

## RES_152_0.125W_1%_0805
designator R?, comment 152
Resistenza SMD TE Connectivity Film sottile; Voltage[V]: 100; Tollerance[%]: 0.1; Serie: CPF; Vendor: TE Connectivity; Type: Resistors; Package: 0805; Power[W]: 0.1; Value[OHM ]: 152
footprint RES_0816_SUS(My_MAXI)
pins: 1, 2

## RES_152K_0.125W_1%_0805
designator R?, comment 152K
Resistenza SMD TE Connectivity Film sottile; Voltage[V]: 100; Tollerance[%]: 0.1; Serie: CPF; Vendor: TE Connectivity; Type: Resistors; Package: 0805; Power[W]: 0.1; Value[OHM ]: 152K
footprint RES_0816_SUS(My_MAXI)
pins: 1, 2

## RES_154_0.125W_1%_0805
designator R?, comment 154
Resistenza SMD TE Connectivity Film sottile; Voltage[V]: 100; Tollerance[%]: 0.1; Serie: CPF; Vendor: TE Connectivity; Type: Resistors; Package: 0805; Power[W]: 0.1; Value[OHM ]: 154
footprint RES_0816_SUS(My_MAXI)
pins: 1, 2

## RES_154K_0.125W_1%_0805
designator R?, comment 154K
Resistenza SMD TE Connectivity Film sottile; Voltage[V]: 100; Tollerance[%]: 0.1; Serie: CPF; Vendor: TE Connectivity; Type: Resistors; Package: 0805; Power[W]: 0.1; Value[OHM ]: 154K
footprint RES_0816_SUS(My_MAXI)
pins: 1, 2

## RES_156_0.125W_1%_0805
designator R?, comment 156
Resistenza SMD TE Connectivity Film sottile; Voltage[V]: 100; Tollerance[%]: 0.1; Serie: CPF; Vendor: TE Connectivity; Type: Resistors; Package: 0805; Power[W]: 0.1; Value[OHM ]: 156
footprint RES_0816_SUS(My_MAXI)
pins: 1, 2

## RES_156K_0.125W_1%_0805
designator R?, comment 156K
Resistenza SMD TE Connectivity Film sottile; Voltage[V]: 100; Tollerance[%]: 0.1; Serie: CPF; Vendor: TE Connectivity; Type: Resistors; Package: 0805; Power[W]: 0.1; Value[OHM ]: 156K
footprint RES_0816_SUS(My_MAXI)
pins: 1, 2

## RES_158_0.125W_1%_0805
designator R?, comment 158
Resistenza SMD TE Connectivity Film sottile; Voltage[V]: 100; Tollerance[%]: 0.1; Serie: CPF; Vendor: TE Connectivity; Type: Resistors; Package: 0805; Power[W]: 0.1; Value[OHM ]: 158
footprint RES_0816_SUS(My_MAXI)
pins: 1, 2

## RES_158K_0.125W_1%_0805
designator R?, comment 158K
Resistenza SMD TE Connectivity Film sottile; Voltage[V]: 100; Tollerance[%]: 0.1; Serie: CPF; Vendor: TE Connectivity; Type: Resistors; Package: 0805; Power[W]: 0.1; Value[OHM ]: 158K
footprint RES_0816_SUS(My_MAXI)
pins: 1, 2

## RES_160_0.125W_1%_0805
designator R?, comment 160
Resistenza SMD TE Connectivity Film sottile; Voltage[V]: 100; Tollerance[%]: 0.1; Serie: CPF; Vendor: TE Connectivity; Type: Resistors; Package: 0805; Power[W]: 0.1; Value[OHM ]: 160
footprint RES_0816_SUS(My_MAXI)
pins: 1, 2

## RES_160K_0.125W_1%_0805
designator R?, comment 160K
Resistenza SMD TE Connectivity Film sottile; Voltage[V]: 100; Tollerance[%]: 0.1; Serie: CPF; Vendor: TE Connectivity; Type: Resistors; Package: 0805; Power[W]: 0.1; Value[OHM ]: 160K
footprint RES_0816_SUS(My_MAXI)
pins: 1, 2

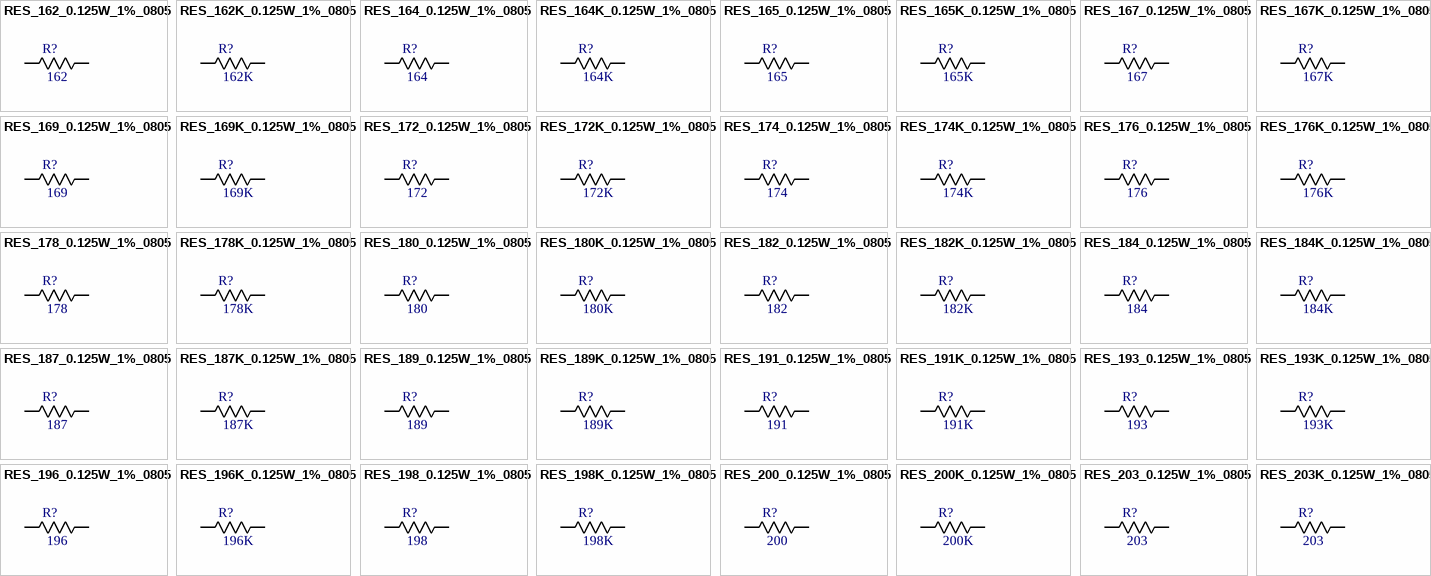
[diagram p17: symbols RES_162_0.125W_1%_0805 to RES_203K_0.125W_1%_0805]

## RES_162_0.125W_1%_0805
designator R?, comment 162
Resistenza SMD TE Connectivity Film sottile; Voltage[V]: 100; Tollerance[%]: 0.1; Serie: CPF; Vendor: TE Connectivity; Type: Resistors; Package: 0805; Power[W]: 0.1; Value[OHM ]: 162
footprint RES_0816_SUS(My_MAXI)
pins: 1, 2

## RES_162K_0.125W_1%_0805
designator R?, comment 162K
Resistenza SMD TE Connectivity Film sottile; Voltage[V]: 100; Tollerance[%]: 0.1; Serie: CPF; Vendor: TE Connectivity; Type: Resistors; Package: 0805; Power[W]: 0.1; Value[OHM ]: 162K
footprint RES_0816_SUS(My_MAXI)
pins: 1, 2

## RES_164_0.125W_1%_0805
designator R?, comment 164
Resistenza SMD TE Connectivity Film sottile; Voltage[V]: 100; Tollerance[%]: 0.1; Serie: CPF; Vendor: TE Connectivity; Type: Resistors; Package: 0805; Power[W]: 0.1; Value[OHM ]: 164
footprint RES_0816_SUS(My_MAXI)
pins: 1, 2

## RES_164K_0.125W_1%_0805
designator R?, comment 164K
Resistenza SMD TE Connectivity Film sottile; Voltage[V]: 100; Tollerance[%]: 0.1; Serie: CPF; Vendor: TE Connectivity; Type: Resistors; Package: 0805; Power[W]: 0.1; Value[OHM ]: 164K
footprint RES_0816_SUS(My_MAXI)
pins: 1, 2

## RES_165_0.125W_1%_0805
designator R?, comment 165
Resistenza SMD TE Connectivity Film sottile; Voltage[V]: 100; Tollerance[%]: 0.1; Serie: CPF; Vendor: TE Connectivity; Type: Resistors; Package: 0805; Power[W]: 0.1; Value[OHM ]: 165
footprint RES_0816_SUS(My_MAXI)
pins: 1, 2

## RES_165K_0.125W_1%_0805
designator R?, comment 165K
Resistenza SMD TE Connectivity Film sottile; Voltage[V]: 100; Tollerance[%]: 0.1; Serie: CPF; Vendor: TE Connectivity; Type: Resistors; Package: 0805; Power[W]: 0.1; Value[OHM ]: 165K
footprint RES_0816_SUS(My_MAXI)
pins: 1, 2

## RES_167_0.125W_1%_0805
designator R?, comment 167
Resistenza SMD TE Connectivity Film sottile; Voltage[V]: 100; Tollerance[%]: 0.1; Serie: CPF; Vendor: TE Connectivity; Type: Resistors; Package: 0805; Power[W]: 0.1; Value[OHM ]: 167
footprint RES_0816_SUS(My_MAXI)
pins: 1, 2

## RES_167K_0.125W_1%_0805
designator R?, comment 167K
Resistenza SMD TE Connectivity Film sottile; Voltage[V]: 100; Tollerance[%]: 0.1; Serie: CPF; Vendor: TE Connectivity; Type: Resistors; Package: 0805; Power[W]: 0.1; Value[OHM ]: 167K
footprint RES_0816_SUS(My_MAXI)
pins: 1, 2

## RES_169_0.125W_1%_0805
designator R?, comment 169
Resistenza SMD TE Connectivity Film sottile; Voltage[V]: 100; Tollerance[%]: 0.1; Serie: CPF; Vendor: TE Connectivity; Type: Resistors; Package: 0805; Power[W]: 0.1; Value[OHM ]: 169
footprint RES_0816_SUS(My_MAXI)
pins: 1, 2

## RES_169K_0.125W_1%_0805
designator R?, comment 169K
Resistenza SMD TE Connectivity Film sottile; Voltage[V]: 100; Tollerance[%]: 0.1; Serie: CPF; Vendor: TE Connectivity; Type: Resistors; Package: 0805; Power[W]: 0.1; Value[OHM ]: 169K
footprint RES_0816_SUS(My_MAXI)
pins: 1, 2

## RES_172_0.125W_1%_0805
designator R?, comment 172
Resistenza SMD TE Connectivity Film sottile; Voltage[V]: 100; Tollerance[%]: 0.1; Serie: CPF; Vendor: TE Connectivity; Type: Resistors; Package: 0805; Power[W]: 0.1; Value[OHM ]: 172
footprint RES_0816_SUS(My_MAXI)
pins: 1, 2

## RES_172K_0.125W_1%_0805
designator R?, comment 172K
Resistenza SMD TE Connectivity Film sottile; Voltage[V]: 100; Tollerance[%]: 0.1; Serie: CPF; Vendor: TE Connectivity; Type: Resistors; Package: 0805; Power[W]: 0.1; Value[OHM ]: 172K
footprint RES_0816_SUS(My_MAXI)
pins: 1, 2